# Altium footprint library BLDC_PCB_LIB.PcbLib: 23 footprints (part 2 of 2)
Each footprint in its own frame and in the unit in brackets; x right, y up, seen from the top. Pads: shape width x height; smd on the part's side, far side on the other; paste and mask are expansions set on the pad; w line width, h text height; cw(c..) or ccw(c..) is an arc to the next point about the centre after c.
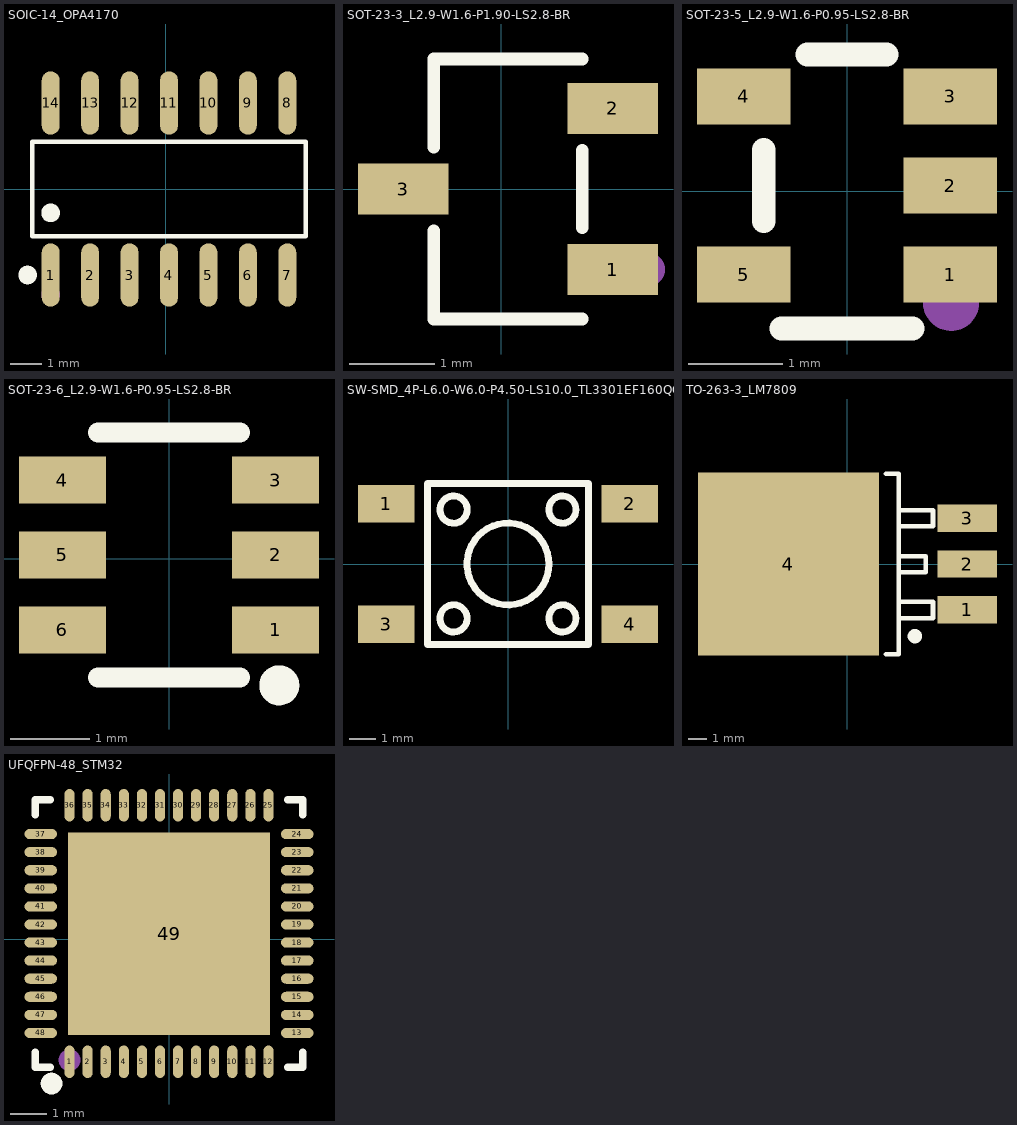
[diagram p1: the footprints below, top view; thin cyan lines are the x and y axes]

## SOIC-14_OPA4170 [mm]
pads (14):
  oval 0.574x2.038 smd paste+0 mask+0.051: 1(-3.699,-2.769) 2(-2.429,-2.769) 3(-1.159,-2.769) 4(0.111,-2.769) 5(1.381,-2.769) 6(2.651,-2.769) 7(3.921,-2.769) 8(3.921,2.769) 9(2.651,2.769) 10(1.381,2.769) 11(0.111,2.769) 12(-1.159,2.769) 13(-2.429,2.769) 14(-3.699,2.769)
Top Overlay:
  circle w0.3: c-4.438,-2.769 r0.15
  circle w0.3: c-3.699,-0.769 r0.15
  lines w0.152: -4.29,-1.521 4.512,-1.521 4.512,1.521 -4.29,1.521 -4.29,-1.521
Mechanical 15:
  circle w0.3: c-3.699,-3.4 r0.15

## SOT-23-3_L2.9-W1.6-P1.90-LS2.8-BR [mm]
pads (3):
  rect 1.07x0.6 smd paste+0 mask+0.051: 1(1.314,-0.95) 2(1.314,0.95) 3(-1.156,0)
Top Overlay:
  lines w0.152: -0.797,-0.495 -0.797,-1.536 0.955,-1.536 ; -0.797,0.495 -0.797,1.536 0.955,1.536 ; 0.955,-0.455 0.955,0.455
Mechanical 15:
  circle w0.2: c1.73,-0.95 r0.1

## SOT-23-5_L2.9-W1.6-P0.95-LS2.8-BR [mm]
pads (5):
  rect 1x0.6 smd paste+0 mask+0.05: 1(1.1,-0.886) 2(1.1,0.064) 3(1.1,1.013) 4(-1.1,1.014) 5(-1.1,-0.886)
Top Overlay:
  lines w0.254: -0.889,-0.317 -0.889,0.445 ; -0.698,-1.46 0.698,-1.46 ; -0.422,1.46 0.422,1.46
Mechanical 15:
  circle w0.3: c1.11,-1.187 r0.15

## SOT-23-6_L2.9-W1.6-P0.95-LS2.8-BR [mm]
pads (6):
  rect 1.1x0.6 smd paste+0 mask+0.051: 1(1.35,-0.899) 2(1.35,0.051) 3(1.35,1.001) 4(-1.35,1.001) 5(-1.35,0.051) 6(-1.35,-0.899)
Top Overlay:
  circle w0.254: c1.397,-1.6 r0.127
  lines w0.254: -0.9,-1.5 0.9,-1.5 ; -0.9,1.6 0.9,1.6
Mechanical 15:
  circle w0.2: c1.4,-0.899 r0.1

## SW-SMD_4P-L6.0-W6.0-P4.50-LS10.0_TL3301EF160QG [mm]
pads (4):
  rect 2.1x1.4 smd paste+0 mask+0.051: 1(-4.55,2.25) 2(4.55,2.25) 3(-4.55,-2.25) 4(4.55,-2.25)
Top Overlay:
  circle w0.254: c0,0 r1.529
  circle w0.254: c2.032,-2.032 r0.508
  circle w0.254: c-2.032,-2.032 r0.508
  circle w0.254: c2.032,2.032 r0.508
  circle w0.254: c-2.03,2.03 r0.508
  lines w0.254: -3,-3 3,-3 3,3 -3,3 -3,-3

## TO-263-3_LM7809 [mm]
pads (4):
  rect 3.3x1.511 smd paste+0 mask+0.051: 1(6.632,-2.54) 2(6.632,0) 3(6.632,2.54)
  rect 10.02x10.122 smd paste+0 mask+0.051: 4(-3.272,0)
Top Overlay:
  lines w0.254: 2.136,-5.001 2.837,-5.001 2.837,5.001 2.136,5.001 ; 2.837,-3 4.737,-3 4.737,-2.101 2.837,-2.101 ; 2.837,-0.46 4.335,-0.46 4.335,0.439 2.837,0.439 ; 2.837,2.08 4.737,2.08 4.737,2.979 2.837,2.979
  lines w0.399: 3.733,-4.201 cw(c3.735,-4.001) 3.736,-4.201
Mechanical 15:
  circle w0.6: c7.396,-2.515 r0.3

## UFQFPN-48_STM32 [mm]
pads (49):
  oval 0.28x0.9 smd paste-100 mask+0.051: 1(-2.751,-3.396) 2(-2.25,-3.396) 3(-1.75,-3.396) 4(-1.25,-3.396) 5(-0.749,-3.396) 6(-0.249,-3.396) 7(0.249,-3.396) 8(0.749,-3.396) 9(1.25,-3.396) 10(1.75,-3.396) 11(2.25,-3.396) 12(2.751,-3.396) 25(2.751,3.698) 26(2.25,3.698) 27(1.75,3.698) 28(1.25,3.698) 29(0.749,3.698) 30(0.249,3.698) 31(-0.249,3.698) 32(-0.749,3.698) 33(-1.25,3.698) 34(-1.75,3.698) 35(-2.25,3.698) 36(-2.751,3.698)
  oval 0.9x0.28 smd paste-100 mask+0.051: 13(3.547,-2.599) 14(3.547,-2.099) 15(3.547,-1.599) 16(3.547,-1.099) 17(3.547,-0.599) 18(3.547,-0.099) 19(3.547,0.401) 20(3.547,0.901) 21(3.547,1.401) 22(3.547,1.901) 23(3.547,2.401) 24(3.547,2.901) 37(-3.547,2.902) 38(-3.547,2.402) 39(-3.547,1.901) 40(-3.547,1.401) 41(-3.547,0.901) 42(-3.547,0.4) 43(-3.547,-0.098) 44(-3.547,-0.598) 45(-3.547,-1.098) 46(-3.547,-1.599) 47(-3.547,-2.099) 48(-3.547,-2.6)
  rect 5.6x5.6 smd paste-100 mask+0.051: 49(0,0.151)
Top Overlay:
  lines w0.2: -3.7,-3.124 -3.7,-3.549 -3.275,-3.549 ; -3.7,3.426 -3.7,3.851 -3.275,3.851 ; 3.275,-3.549 3.7,-3.549 3.7,-3.124 ; 3.275,3.851 3.7,3.851 3.7,3.426
  lines w0.3: -3.25,-3.849 ccw(c-3.249,-3.999) -3.248,-3.849
Top Paste:
  drawing of 49 lines, arcs and shapes, not listed
Mechanical 15:
  circle w0.3: c-2.75,-3.349 r0.15